# Altium schematic symbol library Negm_3.SchLib: 3 symbols
Pins are listed as number, name and electrical type; pins without a type are passive.

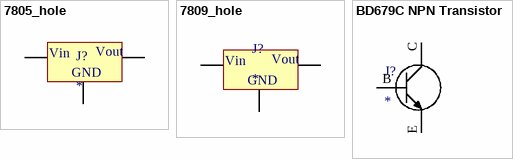
[diagram p0: symbols 7805_hole to BD679C NPN Transistor]

## 7805_hole
designator J?
footprint 780X_hole
pins: 1, 2, 3
text: Vout; Vin; GND

## 7809_hole
designator J?
footprint 780X_hole
pins: 1, 2, 3
text: Vout; Vin; GND

## BD679C NPN Transistor
designator J?
BD679C 750@1.5A,3V 80V NPN 4A 40W TO-126-3 Darlington Transistor
footprint BD679C NPN Transistor (BD679C 750@1.5A,3V 80V NPN 4A 40W TO-126-3 Darlington Transistor)
pins: B, C, E